# EAGLE library part ARDUINO_PRO_MICRO (library Boards and Stuff v20)
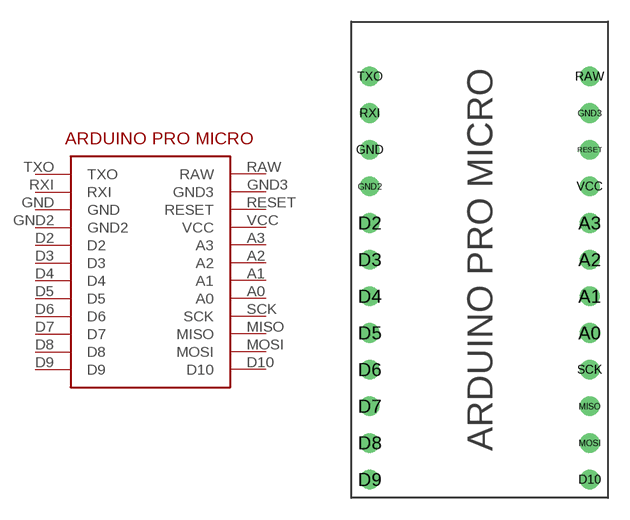
[diagram p0: symbol with the pads of ARDUINO_PRO_MICRO; footprint ARDUINO_PRO_MICRO]

Designator prefix -

## ARDUINO_PRO_MICRO  [ARDUINO_PRO_MICRO]
A0  A0
A1  A1
A2  A2
A3  A3
D2  D2
D3  D3
D4  D4
D5  D5
D6  D6
D7  D7
D8  D8
D9  D9
D10  D10
GND  GND
GND2  GND2
GND3  GND3
MISO  MISO
MOSI  MOSI
RAW  RAW
RESET  RESET
RXI  RXI
SCK  SCK
TXO  TXO
VCC  VCC

## Footprint ARDUINO_PRO_MICRO (pad centres in mm)
drill 0.85: A0 15.24,-17.78; A1 15.24,-15.24; A2 15.24,-12.7; A3 15.24,-10.16; D2 0,-10.16; D3 0,-12.7; D4 0,-15.24; D5 0,-17.78; D6 0,-20.32; D7 0,-22.86; D8 0,-25.4; D9 0,-27.94; D10 15.24,-27.94; GND 0,-5.08; GND2 0,-7.62; GND3 15.24,-2.54; MISO 15.24,-22.86; MOSI 15.24,-25.4; RAW 15.24,0; RESET 15.24,-5.08; RXI 0,-2.54; SCK 15.24,-20.32; TXO 0,0; VCC 15.24,-7.62